# Altium schematic symbol library MOSFET TH.SchLib: 46 symbols
Pins are listed as number, name and electrical type; pins without a type are passive.

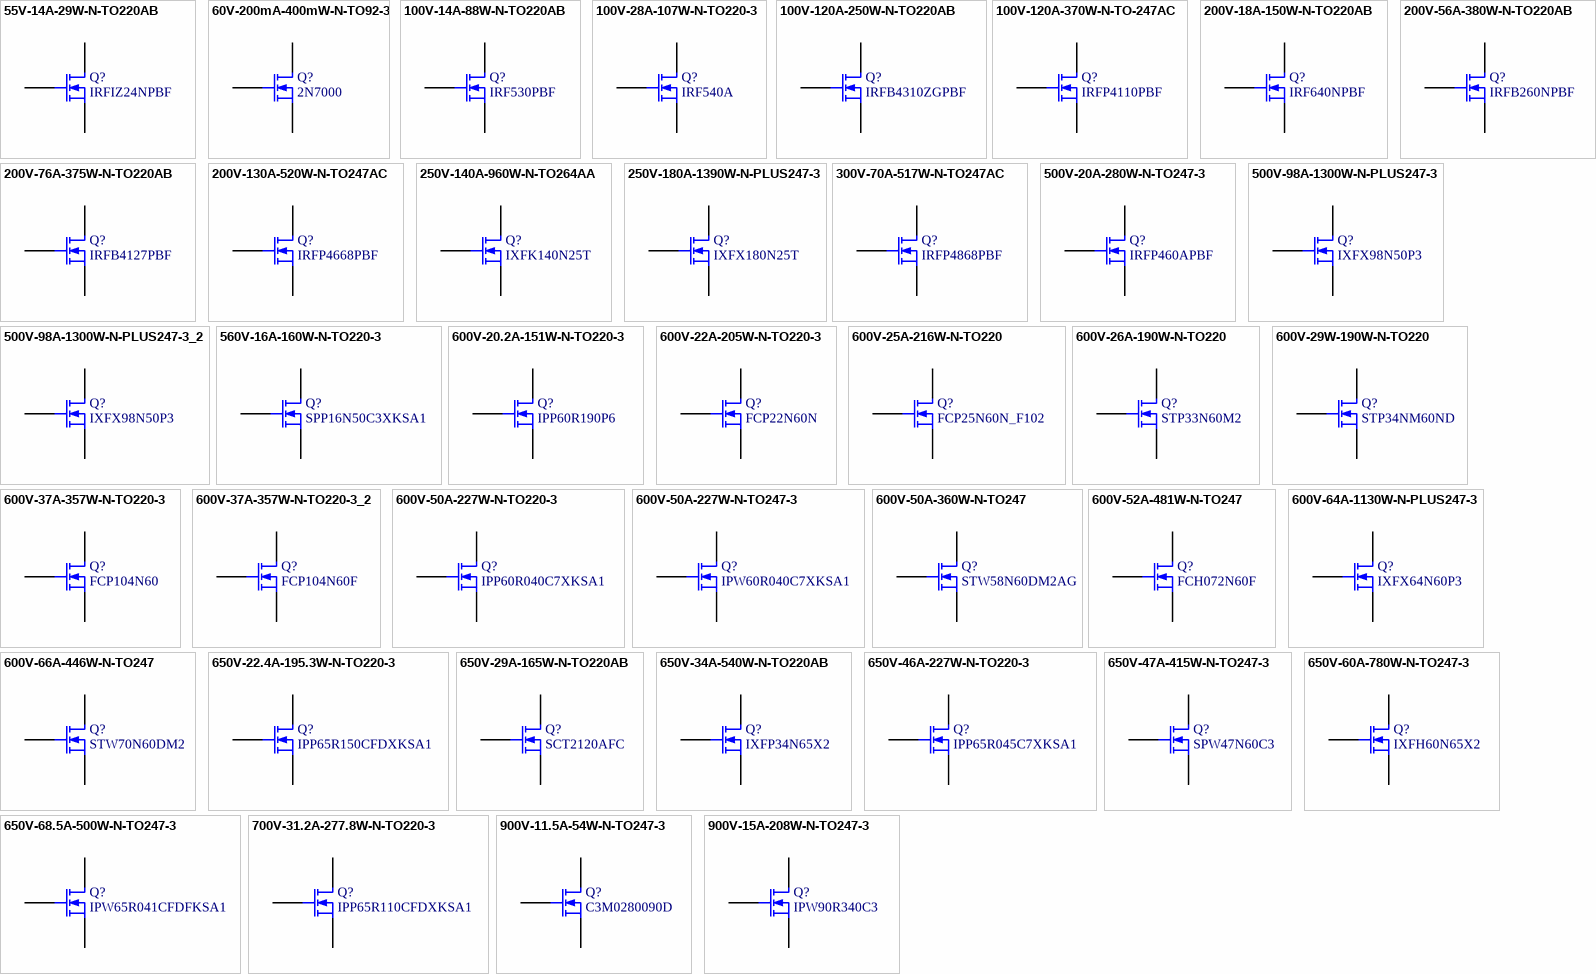
[diagram p0: symbols 55V-14A-29W-N-TO220AB to 900V-15A-208W-N-TO247-3]

## 55V-14A-29W-N-TO220AB
designator Q?, comment IRFIZ24NPBF
N-CH, 55V Voltage Rating, 14A Current Rating, 29W Power Rating, TO220AB Package; Manfacturer: Infineon Technologies; Material: METAL OXIDE; InventoryNumber: MOS035; Type: N-Channel; DistributorName: Digikey; DistributorReference: IRFIZ24NPBF-ND; ManufacturerReference: IRFIZ24NPBF; VoltageRating: 55V; CurrentRating: 14A; Package: TO220AB (FULL PACK); PowerRating: 29W
footprint TO-220-3
pins: 1 G, 2 D, 3 S

## 60V-200mA-400mW-N-TO92-3
designator Q?, comment 2N7000
N-CH, 60V Voltage Rating, 200mA Current Rating, 400mW Power Rating, TO92-3 Package; Manfacturer: ON Semiconductor; Material: METAL OXIDE; InventoryNumber: MOS037; Type: N-Channel; DistributorName: Digikey; DistributorReference: 2N7000FS-ND; ManufacturerReference: 2N7000; VoltageRating: 60V; CurrentRating: 200mA; Package: TO92-3; PowerRating: 400mW
footprint TO92 TAPED BULK STRAIGHT LEAD
footprint TO92 TAPED BENT LEAD
pins: 1 G, 2 D, 3 S

## 100V-14A-88W-N-TO220AB
designator Q?, comment IRF530PBF
N-CH, 100V Voltage Rating, 14A Current Rating, 88W Power Rating, TO220AB Package; Manfacturer: Vishay Siliconix; Material: METAL OXIDE; InventoryNumber: MOS038; Type: N-Channel; DistributorName: Digikey; DistributorReference: IRF530PBF-ND; ManufacturerReference: IRF530PBF; VoltageRating: 100V; CurrentRating: 14A; Package: TO220AB; PowerRating: 88W
footprint TO-220-3
pins: 1 G, 2 D, 3 S

## 100V-28A-107W-N-TO220-3
designator Q?, comment IRF540A
N-CH, 100V Voltage Rating, 28A Current Rating, 107W Power Rating, TO220-3 Package; Manfacturer: ON Semiconductor; Material: METAL OXIDE; InventoryNumber: MOS040; Type: N-Channel; DistributorName: Digikey; DistributorReference: IRF540A; ManufacturerReference: IRF540A; VoltageRating: 100V; CurrentRating: 28A; Package: TO220-3; PowerRating: 107W
footprint TO-220-3
pins: 1 G, 2 D, 3 S

## 100V-120A-250W-N-TO220AB
designator Q?, comment IRFB4310ZGPBF
N-CH, 100V Voltage Rating, 120A Current Rating, 250W Power Rating, TO220AB Package; Manfacturer: Infineon Technologies; Material: METAL OXIDE; InventoryNumber: MOS041; Type: N-Channel; DistributorName: Digikey; DistributorReference: IRFB4310ZGPBF-ND; ManufacturerReference: IRFB4310ZGPBF; VoltageRating: 100V; CurrentRating: 120A; Package: TO220AB; PowerRating: 250W
footprint TO-220-3
pins: 1 G, 2 D, 3 S

## 100V-120A-370W-N-TO-247AC
designator Q?, comment IRFP4110PBF
N-CH, 100V Voltage Rating, 120A Current Rating, 370W Power Rating, TO-247AC Package; Manfacturer: Infineon Technologies; Material: METAL OXIDE; InventoryNumber: MOS006; Type: N-Channel; DistributorName: Digikey; DistributorReference: IRFP4110PBF-ND; ManufacturerReference: IRFP4110PBF; VoltageRating: 100V; CurrentRating: 120A; Package: TO-247AC; PowerRating: 370W
footprint TO-247-3
pins: 1 G, 2 D, 3 S

## 200V-18A-150W-N-TO220AB
designator Q?, comment IRF640NPBF
N-CH, 200V Voltage Rating, 18A Current Rating, 150W Power Rating, TO220AB Package; Manfacturer: Infineon Technologies; Material: METAL OXIDE; InventoryNumber: MOS043; Type: N-Channel; DistributorName: Digikey; DistributorReference: IRF640NPBF-ND; ManufacturerReference: IRF640NPBF; VoltageRating: 200V; CurrentRating: 18A; Package: TO220AB; PowerRating: 150W
footprint TO-220-3
pins: 1 G, 2 D, 3 S

## 200V-56A-380W-N-TO220AB
designator Q?, comment IRFB260NPBF
N-CH, 200V Voltage Rating, 56A Current Rating, 380W Power Rating, TO220AB Package; Manfacturer: Infineon Technologies; Material: METAL OXIDE; InventoryNumber: MOS007; Type: N-Channel; DistributorName: Digikey; DistributorReference: IRFB260NPBF-ND; ManufacturerReference: IRFB260NPBF; VoltageRating: 200V; CurrentRating: 56A; Package: TO220AB; PowerRating: 380W
footprint TO-220-3
pins: 1 G, 2 D, 3 S

## 200V-76A-375W-N-TO220AB
designator Q?, comment IRFB4127PBF
N-CH, 200V Voltage Rating, 76A Current Rating, 375W Power Rating, TO220AB Package; Manfacturer: Infineon Technologies; Material: METAL OXIDE; InventoryNumber: MOS008; Type: N-Channel; DistributorName: Digikey; DistributorReference: IRFB4127PBF-ND; ManufacturerReference: IRFB4127PBF; VoltageRating: 200V; CurrentRating: 76A; Package: TO220AB; PowerRating: 375W
footprint TO-220-3
pins: 1 G, 2 D, 3 S

## 200V-130A-520W-N-TO247AC
designator Q?, comment IRFP4668PBF
N-CH, 200V Voltage Rating, 130A Current Rating, 520W Power Rating, TO247AC Package; Manfacturer: Infineon Technologies; Material: METAL OXIDE; InventoryNumber: MOS009; Type: N-Channel; DistributorName: Digikey; DistributorReference: IRFP4668PBF-ND; ManufacturerReference: IRFP4668PBF; VoltageRating: 200V; CurrentRating: 130A; Package: TO247AC; PowerRating: 520W
footprint TO-247-3
pins: 1 G, 2 D, 3 S

## 250V-140A-960W-N-TO264AA
designator Q?, comment IXFK140N25T
N-CH, 250V Voltage Rating, 140A Current Rating, 960W Power Rating, TO264AA Package; Manfacturer: IXYS; Material: METAL OXIDE; InventoryNumber: MOS012; Type: N-Channel; DistributorName: Digikey; DistributorReference: IXFK140N25T-ND; ManufacturerReference: IXFK140N25T; VoltageRating: 250V; CurrentRating: 140A; Package: TO264AA; PowerRating: 960W
footprint TO264AA
pins: 1 G, 2 D, 3 S

## 250V-180A-1390W-N-PLUS247-3
designator Q?, comment IXFX180N25T
N-CH, 250V Voltage Rating, 180A Current Rating, 1390W Power Rating, PLUS247-3 Package; Manfacturer: IXYS; Material: METAL OXIDE; InventoryNumber: MOS011; Type: N-Channel; DistributorName: Digikey; DistributorReference: IXFX180N25T-ND; ManufacturerReference: IXFX180N25T; VoltageRating: 250V; CurrentRating: 180A; Package: PLUS247-3; PowerRating: 1390W
footprint TO-247-3/PLUS247
pins: 1 G, 2 D, 3 S

## 300V-70A-517W-N-TO247AC
designator Q?, comment IRFP4868PBF
N-CH, 300V Voltage Rating, 70A Current Rating, 517W Power Rating, TO247AC Package; Manfacturer: Infineon Technologies; Material: METAL OXIDE; InventoryNumber: MOS013; Type: N-Channel; DistributorName: Digikey; DistributorReference: IRFP4868PBF-ND; ManufacturerReference: IRFP4868PBF; VoltageRating: 300V; CurrentRating: 70A; Package: TO247AC; PowerRating: 517W
footprint TO-247-3
pins: 1 G, 2 D, 3 S

## 500V-20A-280W-N-TO247-3
designator Q?, comment IRFP460APBF
N-CH, 500V Voltage Rating, 20A Current Rating, 280W Power Rating, TO247-3 Package; Manfacturer: Vishay Siliconix; Material: METAL OXIDE; InventoryNumber: MOS044; Type: N-Channel; DistributorName: Digikey; DistributorReference: IRFP460APBF-ND; ManufacturerReference: IRFP460APBF; VoltageRating: 500V; CurrentRating: 20A; Package: TO247-3; PowerRating: 280W
footprint TO-247-3
pins: 1 G, 2 D, 3 S

## 500V-98A-1300W-N-PLUS247-3
designator Q?, comment IXFX98N50P3
N-CH, 500V Voltage Rating, 98A Current Rating, 1300W Power Rating, PLUS247-3 Package; Manfacturer: IXYS; Material: METAL OXIDE; InventoryNumber: MOS015; Type: N-Channel; DistributorName: Digikey; DistributorReference: IXFX98N50P3-ND; ManufacturerReference: IXFX98N50P3; VoltageRating: 500V; CurrentRating: 98A; Package: PLUS247-3; PowerRating: 1300W
footprint TO-247-3/PLUS247
pins: 1 G, 2 D, 3 S

## 500V-98A-1300W-N-PLUS247-3_2
designator Q?, comment IXFX98N50P3
N-CH, 500V Voltage Rating, 98A Current Rating, 1300W Power Rating, PLUS247-3 Package; Manfacturer: IXYS; Material: METAL OXIDE; InventoryNumber: MOS016; Type: N-Channel; DistributorName: Digikey; DistributorReference: IXFX98N50P3-ND; ManufacturerReference: IXFX98N50P3; VoltageRating: 500V; CurrentRating: 98A; Package: PLUS247-3; PowerRating: 1300W
footprint TO-247-3/PLUS247
pins: 1 G, 2 D, 3 S

## 560V-16A-160W-N-TO220-3
designator Q?, comment SPP16N50C3XKSA1
N-CH, 560V Voltage Rating, 16A Current Rating, 160W Power Rating, TO220-3 Package; Manfacturer: Infineon Technologies; Material: METAL OXIDE; InventoryNumber: MOS045; Type: N-Channel; DistributorName: Digikey; DistributorReference: SPP16N50C3XKSA1-ND; ManufacturerReference: SPP16N50C3XKSA1; VoltageRating: 560V; CurrentRating: 16A; Package: TO220-3; PowerRating: 160W
footprint TO-220-3
pins: 1 G, 2 D, 3 S

## 600V-20.2A-151W-N-TO220-3
designator Q?, comment IPP60R190P6
N-CH, 600V Voltage Rating, 20.2A Current Rating, 151W Power Rating, TO220-3 Package; Manfacturer: Infineon Technologies; Material: METAL OXIDE; InventoryNumber: MOS019; Type: N-Channel; DistributorName: Digikey; DistributorReference: IPP60R190P6-ND; ManufacturerReference: IPP60R190P6; VoltageRating: 600V; CurrentRating: 20.2A; Package: TO220-3; PowerRating: 151W
footprint TO-220-3
pins: 1 G, 2 D, 3 S

## 600V-22A-205W-N-TO220-3
designator Q?, comment FCP22N60N
N-CH, 600V Voltage Rating, 22A Current Rating, 205W Power Rating, TO220-3 Package; Manfacturer: ON Semiconductor; Material: METAL OXIDE; InventoryNumber: MOS055; Type: N-Channel; DistributorName: Digikey; DistributorReference: FCP22N60N-ND; ManufacturerReference: FCP22N60N; VoltageRating: 600V; CurrentRating: 22A; Package: TO220-3; PowerRating: 205W
footprint TO-220-3
pins: 1 G, 2 D, 3 S

## 600V-25A-216W-N-TO220
designator Q?, comment FCP25N60N_F102
N-CH, 600V Voltage Rating, 25A Current Rating, 216W Power Rating, TO220 Package; Manfacturer: ON Semiconductor; Material: METAL OXIDE; InventoryNumber: MOS058; Type: N-Channel; DistributorName: Digikey; DistributorReference: FCP25N60N_F102-ND; ManufacturerReference: FCP25N60N_F102; VoltageRating: 600V; CurrentRating: 25A; Package: TO220; PowerRating: 216W
footprint TO-220-3
pins: 1 G, 2 D, 3 S

## 600V-26A-190W-N-TO220
designator Q?, comment STP33N60M2
N-CH, 600V Voltage Rating, 26A Current Rating, 190W Power Rating, TO220 Package; Manfacturer: STMicroelectronics; Material: METAL OXIDE; InventoryNumber: MOS053; Type: N-Channel; DistributorName: Digikey; DistributorReference: 497-14221-5-ND; ManufacturerReference: STP33N60M2; VoltageRating: 600V; CurrentRating: 26A; Package: TO220; PowerRating: 190W
footprint TO-220-3
pins: 1 G, 2 D, 3 S

## 600V-29W-190W-N-TO220
designator Q?, comment STP34NM60ND
N-CH, 600V Voltage Rating, 29A Current Rating, 190W Power Rating, TO220 Package; Manfacturer: STMicroelectronics; Material: METAL OXIDE; InventoryNumber: MOS054; Type: N-Channel; DistributorName: Digikey; DistributorReference: 497-11335-5-ND; ManufacturerReference: STP34NM60ND; VoltageRating: 600V; CurrentRating: 29A; Package: TO220; PowerRating: 190W
footprint TO-220-3
pins: 1 G, 2 D, 3 S

## 600V-37A-357W-N-TO220-3
designator Q?, comment FCP104N60
N-CH, Voltage Rating, Current Rating, Power Rating, Package; Manfacturer: ON Semiconductor; VoltageRating: 600V; CurrentRating: 37A; PowerRating: 357W; Material: METAL OXIDE; InventoryNumber: MOS056; Type: N-Channel; DistributorName: Digikey; DistributorReference: FCP104N60-ND; ManufacturerReference: FCP104N60; Package: TO220-3
footprint TO-220-3
pins: 1 G, 2 D, 3 S

## 600V-37A-357W-N-TO220-3_2
designator Q?, comment FCP104N60F
N-CH, 600V Voltage Rating, 37A Current Rating, 357W Power Rating, TO220-3 Package; Manfacturer: ON Semiconductor; Material: METAL OXIDE; InventoryNumber: MOS057; Type: N-Channel; DistributorName: Digikey; DistributorReference: FCP104N60F-ND; ManufacturerReference: FCP104N60F; VoltageRating: 600V; CurrentRating: 37A; Package: TO220-3; PowerRating: 357W
footprint TO-220-3
pins: 1 G, 2 D, 3 S

## 600V-50A-227W-N-TO220-3
designator Q?, comment IPP60R040C7XKSA1
N-CH, 600V Voltage Rating, 50A Current Rating, 227W Power Rating, TO220-3 Package; Manfacturer: Infineon Technologies; Material: METAL OXIDE; InventoryNumber: MOS059; Type: N-Channel; DistributorName: Digikey; DistributorReference: IPP60R040C7XKSA1-ND; ManufacturerReference: IPP60R040C7XKSA1; VoltageRating: 600V; CurrentRating: 50A; Package: TO220-3; PowerRating: 227W
footprint TO-220-3
pins: 1 G, 2 D, 3 S

## 600V-50A-227W-N-TO247-3
designator Q?, comment IPW60R040C7XKSA1
N-CH, 600V Voltage Rating, 50A Current Rating, 227W Power Rating, TO247-3 Package; Manfacturer: Infineon Technologies; Material: METAL OXIDE; InventoryNumber: MOS020; Type: N-Channel; DistributorName: Digikey; DistributorReference: IPW60R040C7XKSA1-ND; ManufacturerReference: IPW60R040C7XKSA1; VoltageRating: 600V; CurrentRating: 50A; Package: TO247-3; PowerRating: 227W
footprint TO-247-3
pins: 1 G, 2 D, 3 S

## 600V-50A-360W-N-TO247
designator Q?, comment STW58N60DM2AG
N-CH, 600V Voltage Rating, 50A Current Rating, 360W Power Rating, TO247 Package; Manfacturer: STMicroelectronics; Material: METAL OXIDE; InventoryNumber: MOS049; Type: N-Channel; DistributorName: Digikey; DistributorReference: 497-16131-5-ND; ManufacturerReference: STW58N60DM2AG; VoltageRating: 600V; CurrentRating: 50A; Package: TO247; PowerRating: 360W
footprint TO-247-3
pins: 1 G, 2 D, 3 S

## 600V-52A-481W-N-TO247
designator Q?, comment FCH072N60F
N-CH, 600V Voltage Rating, 52A Current Rating, 481W Power Rating, TO247 Package; Manfacturer: ON Semiconductor; Material: METAL OXIDE; InventoryNumber: MOS033; Type: N-Channel; DistributorName: Digikey; DistributorReference: FCH072N60F-ND; ManufacturerReference: FCH072N60F; VoltageRating: 600V; CurrentRating: 52A; Package: TO247; PowerRating: 481W
footprint TO-247-3
pins: 1 G, 2 D, 3 S

## 600V-64A-1130W-N-PLUS247-3
designator Q?, comment IXFX64N60P3
N-CH, 600V Voltage Rating, 64A Current Rating, 1130W Power Rating, PLUS247-3 Package; Manfacturer: IXYS; Material: METAL OXIDE; InventoryNumber: MOS021; Type: N-Channel; DistributorName: Digikey; DistributorReference: IXFX64N60P3-ND; ManufacturerReference: IXFX64N60P3; VoltageRating: 600V; CurrentRating: 64A; Package: PLUS247-3; PowerRating: 1130W
footprint TO-247-3/PLUS247
pins: 1 G, 2 D, 3 S

## 600V-66A-446W-N-TO247
designator Q?, comment STW70N60DM2
N-CH, 600V Voltage Rating, 66A Current Rating, 446W Power Rating, TO247 Package; Manfacturer: STMicroelectronics; Material: METAL OXIDE; InventoryNumber: MOS060; Type: N-Channel; DistributorName: Digikey; DistributorReference: 497-16345-5-ND; ManufacturerReference: STW70N60DM2; VoltageRating: 600V; CurrentRating: 66A; Package: TO247; PowerRating: 446W
footprint TO-247-3
pins: 1 G, 2 D, 3 S

## 650V-22.4A-195.3W-N-TO220-3
designator Q?, comment IPP65R150CFDXKSA1
N-CH, 650V Voltage Rating, 22.4A Current Rating, 195.3W Power Rating, TO220-3 Package; Manfacturer: Infineon Technologies; Material: METAL OXIDE; InventoryNumber: MOS047; Type: N-Channel; DistributorName: Digikey; DistributorReference: IPP65R150CFDXKSA1-ND; ManufacturerReference: IPP65R150CFDXKSA1; VoltageRating: 650V; CurrentRating: 22.4A; Package: TO220-3; PowerRating: 195.3W
footprint TO-220-3
pins: 1 G, 2 D, 3 S

## 650V-29A-165W-N-TO220AB
designator Q?, comment SCT2120AFC
N-CH, 650V Voltage Rating, 29A Current Rating, 165W Power Rating, TO220AB Package; Manfacturer: Rohm Semiconductor; Material: METAL OXIDE; InventoryNumber: MOS022; Type: N-Channel; DistributorName: Digikey; DistributorReference: SCT2120AFC-nd; ManufacturerReference: SCT2120AFC; VoltageRating: 650V; CurrentRating: 29A; Package: TO220AB; PowerRating: 165W
footprint TO-220-3
pins: 1 G, 2 D, 3 S

## 650V-34A-540W-N-TO220AB
designator Q?, comment IXFP34N65X2
N-CH, 650V Voltage Rating, 34A Current Rating, 540W Power Rating, TO220AB Package; Manfacturer: IXYS; Material: METAL OXIDE; InventoryNumber: MOS023; Type: N-Channel; DistributorName: Digikey; DistributorReference: IXFP34N65X2-ND; ManufacturerReference: IXFP34N65X2; VoltageRating: 650V; CurrentRating: 34A; Package: TO220AB; PowerRating: 540W
footprint TO-220-3
pins: 1 G, 2 D, 3 S

## 650V-46A-227W-N-TO220-3
designator Q?, comment IPP65R045C7XKSA1
N-CH, 650V Voltage Rating, 46W Current Rating, 227W Power Rating, TO220-3 Package; Manfacturer: Infineon Technologies; CurrentRating: 46A; Material: METAL OXIDE; InventoryNumber: MOS052; Type: N-Channel; DistributorName: Digikey; DistributorReference: IPP65R045C7XKSA1-ND; ManufacturerReference: IPP65R045C7XKSA1; VoltageRating: 650V; Package: TO220-3; PowerRating: 227W
footprint TO-220-3
pins: 1 G, 2 D, 3 S

## 650V-47A-415W-N-TO247-3
designator Q?, comment SPW47N60C3
N-CH, 650V Voltage Rating, 47W Current Rating, 415W Power Rating, TO247-3 Package; Manfacturer: Infineon Technologies; CurrentRating: 47A; Material: METAL OXIDE; InventoryNumber: MOS025; Type: N-Channel; DistributorName: Digikey; DistributorReference: SPW47N60C3IN-ND; ManufacturerReference: SPW47N60C3; VoltageRating: 650V; Package: TO247-3; PowerRating: 415W
footprint TO-247-3
pins: 1 G, 2 D, 3 S

## 650V-60A-780W-N-TO247-3
designator Q?, comment IXFH60N65X2
N-CH, 650V Voltage Rating, 60A Current Rating, 780W Power Rating, TO247-3 Package; Manfacturer: IXYS; Material: METAL OXIDE; InventoryNumber: MOS026; Type: N-Channel; DistributorName: Digikey; DistributorReference: IXFH60N65X2-ND; ManufacturerReference: IXFH60N65X2; VoltageRating: 650V; CurrentRating: 60A; Package: TO247-3; PowerRating: 780W
footprint TO-247-3
pins: 1 G, 2 D, 3 S

## 650V-68.5A-500W-N-TO247-3
designator Q?, comment IPW65R041CFDFKSA1
N-CH, 650V Voltage Rating, 68.5A Current Rating, 500W Power Rating, TO247-3 Package; Manfacturer: Infineon Technologies; Material: METAL OXIDE; InventoryNumber: MOS017; Type: N-Channel; DistributorName: Digikey; DistributorReference: IPW65R041CFDFKSA1-ND; ManufacturerReference: IPW65R041CFDFKSA1; VoltageRating: 650V; CurrentRating: 68.5A; Package: TO247-3; PowerRating: 500W
footprint TO-247-3
pins: 1 G, 2 D, 3 S

## 700V-31.2A-277.8W-N-TO220-3
designator Q?, comment IPP65R110CFDXKSA1
N-CH, 700V Voltage Rating, 31.2A Current Rating, 277.8W Power Rating, TO220-3 Package; Manfacturer: Infineon Technologies; Material: METAL OXIDE; InventoryNumber: MOS050; Type: N-Channel; DistributorName: Digikey; DistributorReference: IPP65R110CFDXKSA1-ND; ManufacturerReference: IPP65R110CFDXKSA1; VoltageRating: 700V; CurrentRating: 31.2A; Package: TO220-3; PowerRating: 277.8W
footprint TO-220-3
pins: 1 G, 2 D, 3 S

## 900V-11.5A-54W-N-TO247-3
designator Q?, comment C3M0280090D
N-CH, 900V Voltage Rating, 11.5A Current Rating, 54W Power Rating, TO247-3 Package; Manfacturer: Cree/Wolfspeed; Material: METAL OXIDE; InventoryNumber: MOS028; Type: N-Channel; DistributorName: Digikey; DistributorReference: C3M0280090D-ND; ManufacturerReference: C3M0280090D; VoltageRating: 900V; CurrentRating: 11.5A; Package: TO247-3; PowerRating: 54W
footprint TO-247-3
pins: 1 G, 2 D, 3 S

## 900V-15A-208W-N-TO247-3
designator Q?, comment IPW90R340C3
N-CH, 900V Voltage Rating, 15A Current Rating, 208W Power Rating, TO247-3 Package; Manfacturer: Infineon Technologies; Material: METAL OXIDE; InventoryNumber: MOS027; Type: N-Channel; DistributorName: Digikey; DistributorReference: IPW90R340C3-ND; ManufacturerReference: IPW90R340C3; VoltageRating: 900V; CurrentRating: 15A; Package: TO247-3; PowerRating: 208W
footprint TO-247-3
pins: 1 G, 2 D, 3 S

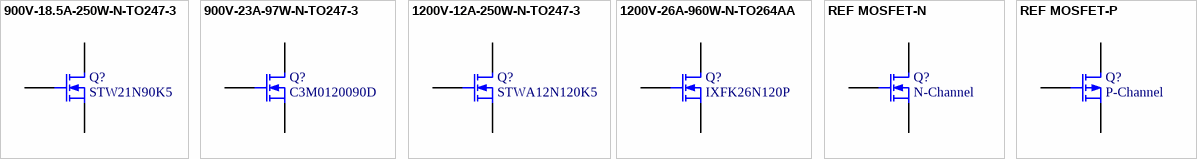
[diagram p1: symbols 900V-18.5A-250W-N-TO247-3 to REF MOSFET-P]

## 900V-18.5A-250W-N-TO247-3
designator Q?, comment STW21N90K5
N-CH, 900V Voltage Rating, 18.5A Current Rating, 250W Power Rating, TO247-3 Package; Manfacturer: STMicroelectronics; Material: METAL OXIDE; InventoryNumber: MOS029; Type: N-Channel; DistributorName: Digikey; DistributorReference: 497-12873-5-ND; ManufacturerReference: STW21N90K5; VoltageRating: 900V; CurrentRating: 18.5A; Package: TO247-3; PowerRating: 250W
footprint TO-247-3
pins: 1 G, 2 D, 3 S

## 900V-23A-97W-N-TO247-3
designator Q?, comment C3M0120090D
N-CH, 900V Voltage Rating, 23A Current Rating, 97W Power Rating, TO247-3 Package; Manfacturer: Cree/Wolfspeed; Material: SILLICON CARBIDE; InventoryNumber: MOS046; Type: N-Channel; DistributorName: Digikey; DistributorReference: C3M0120090D-ND; ManufacturerReference: C3M0120090D; VoltageRating: 900V; CurrentRating: 23A; Package: TO247-3; PowerRating: 97W
footprint TO-247-3
pins: 1 G, 2 D, 3 S

## 1200V-12A-250W-N-TO247-3
designator Q?, comment STWA12N120K5
N-CH, 1200V Voltage Rating, 12A Current Rating, 250W Power Rating, TO247-3 Package; Manfacturer: STMicroelectronics; Material: METAL OXIDE; InventoryNumber: MOS030; Type: N-Channel; DistributorName: Digikey; DistributorReference: 497-16029-5-ND; ManufacturerReference: STWA12N120K5; VoltageRating: 1200V; CurrentRating: 12A; Package: TO-247-3(LONG LEADS); PowerRating: 250W
footprint TO-247-3
pins: 1 G, 2 D, 3 S

## 1200V-26A-960W-N-TO264AA
designator Q?, comment IXFK26N120P
N-CH, 1200V Voltage Rating, 26A Current Rating, 960W Power Rating, TO264AA Package; Manfacturer: IXYS; Material: METAL OXIDE; InventoryNumber: MOS032; Type: N-Channel; DistributorName: Digikey; DistributorReference: IXFK26N120P-ND; ManufacturerReference: IXFK26N120P; VoltageRating: 1200V; CurrentRating: 26A; Package: TO264AA; PowerRating: 960W
footprint TO264AA
pins: 1 G, 2 D, 3 S

## REF MOSFET-N
designator Q?, comment N-Channel
N-CH, Voltage Rating, Current Rating, Power Rating, Package; Material: METAL OXIDE; DistributorName: Digikey; DistributorReference: *; Manfacturer: *; ManufacturerReference: *; VoltageRating: *; CurrentRating: *; Package: *; PowerRating: *; InventoryNumber: *; Type: N-Channel
pins: 1 G, 2 D, 3 S

## REF MOSFET-P
designator Q?, comment P-Channel
P-CH, Volatge Rating, Current Rating, Power Rating, Package; DistributorName: Digikey; DistributorReference: *; Manufacturer: *; ManufacturerReference: *; VoltageRating: *; CurrentRating: *; PowerRating: *; Material: *; Package: *; InventoryNumber: *; Type: *
pins: 1 D, 2 G, 3 S